# EAGLE library part USB-MINIB (library comma.ai)
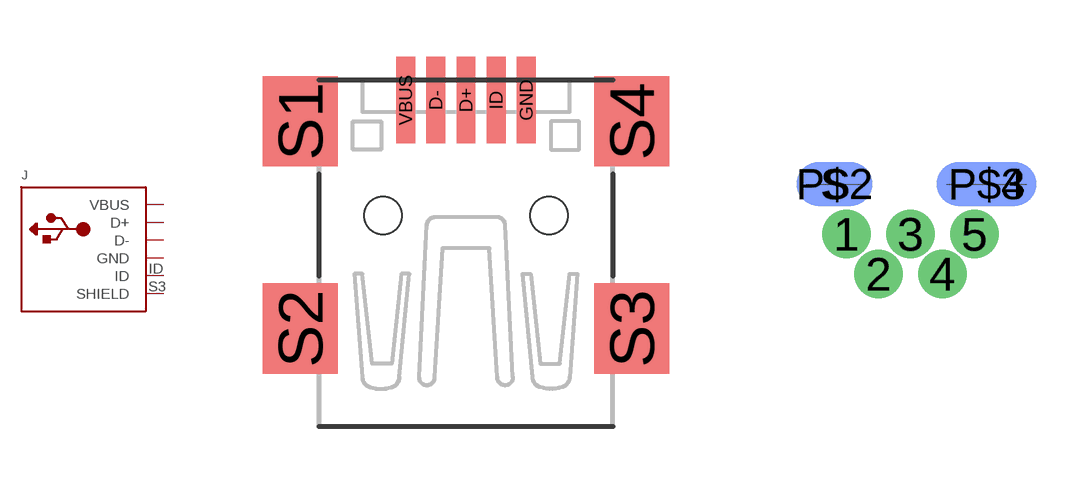
[diagram p28: symbol with the pads of USB-MINIB; footprints USB-MINIB, USB-MINIB-VERT]

Designator prefix J

## USB-MINIBSMD  [USB-MINIB]
D+  D+
D-  D-
GND  GND  pwr
ID  ID
S3  SHIELD
VBUS  VBUS  pwr

## USB-MINIBTHRUHOLE  [USB-MINIB-VERT]
1  VBUS  pwr
2  D-
3  D+
5  GND  pwr
S  SHIELD

## Footprint USB-MINIB (pad centres in mm)
Surface Mount USB Mini-B Connector
smd 0.5 x 2.308: D+ 0,4.064; D- -0.8,4.064; GND 1.6,4.064; ID 0.8,4.064; VBUS -1.6,4.064
smd 2 x 2.4: S1 -4.4,3.5; S2 -4.4,-2; S3 4.4,-2; S4 4.4,3.5
hole 1 at -2.2,1
hole 1 at 2.2,1

## Footprint USB-MINIB-VERT (pad centres in mm)
drill 0.7 pad 1.016: 1 -1.6,0.5; 2 -0.8,-0.5; 3 0,0.5; 4 0.8,-0.5; 5 1.6,0.5
smd 1.9 x 1.1 bottom: P$2 -1.9,1.75
smd 2.5 x 1.1: P$3 1.9,1.75
smd 2.5 x 1.1 bottom: P$4 1.9,1.75
smd 1.9 x 1.1: S -1.9,1.75